# Altium footprint library Diod.PcbLib: 392 footprints (part 18 of 25)
Each footprint in its own frame and in the unit in brackets; x right, y up, seen from the top. Pads: shape width x height; smd on the part's side, far side on the other; paste and mask are expansions set on the pad; w line width, h text height; cw(c..) or ccw(c..) is an arc to the next point about the centre after c.
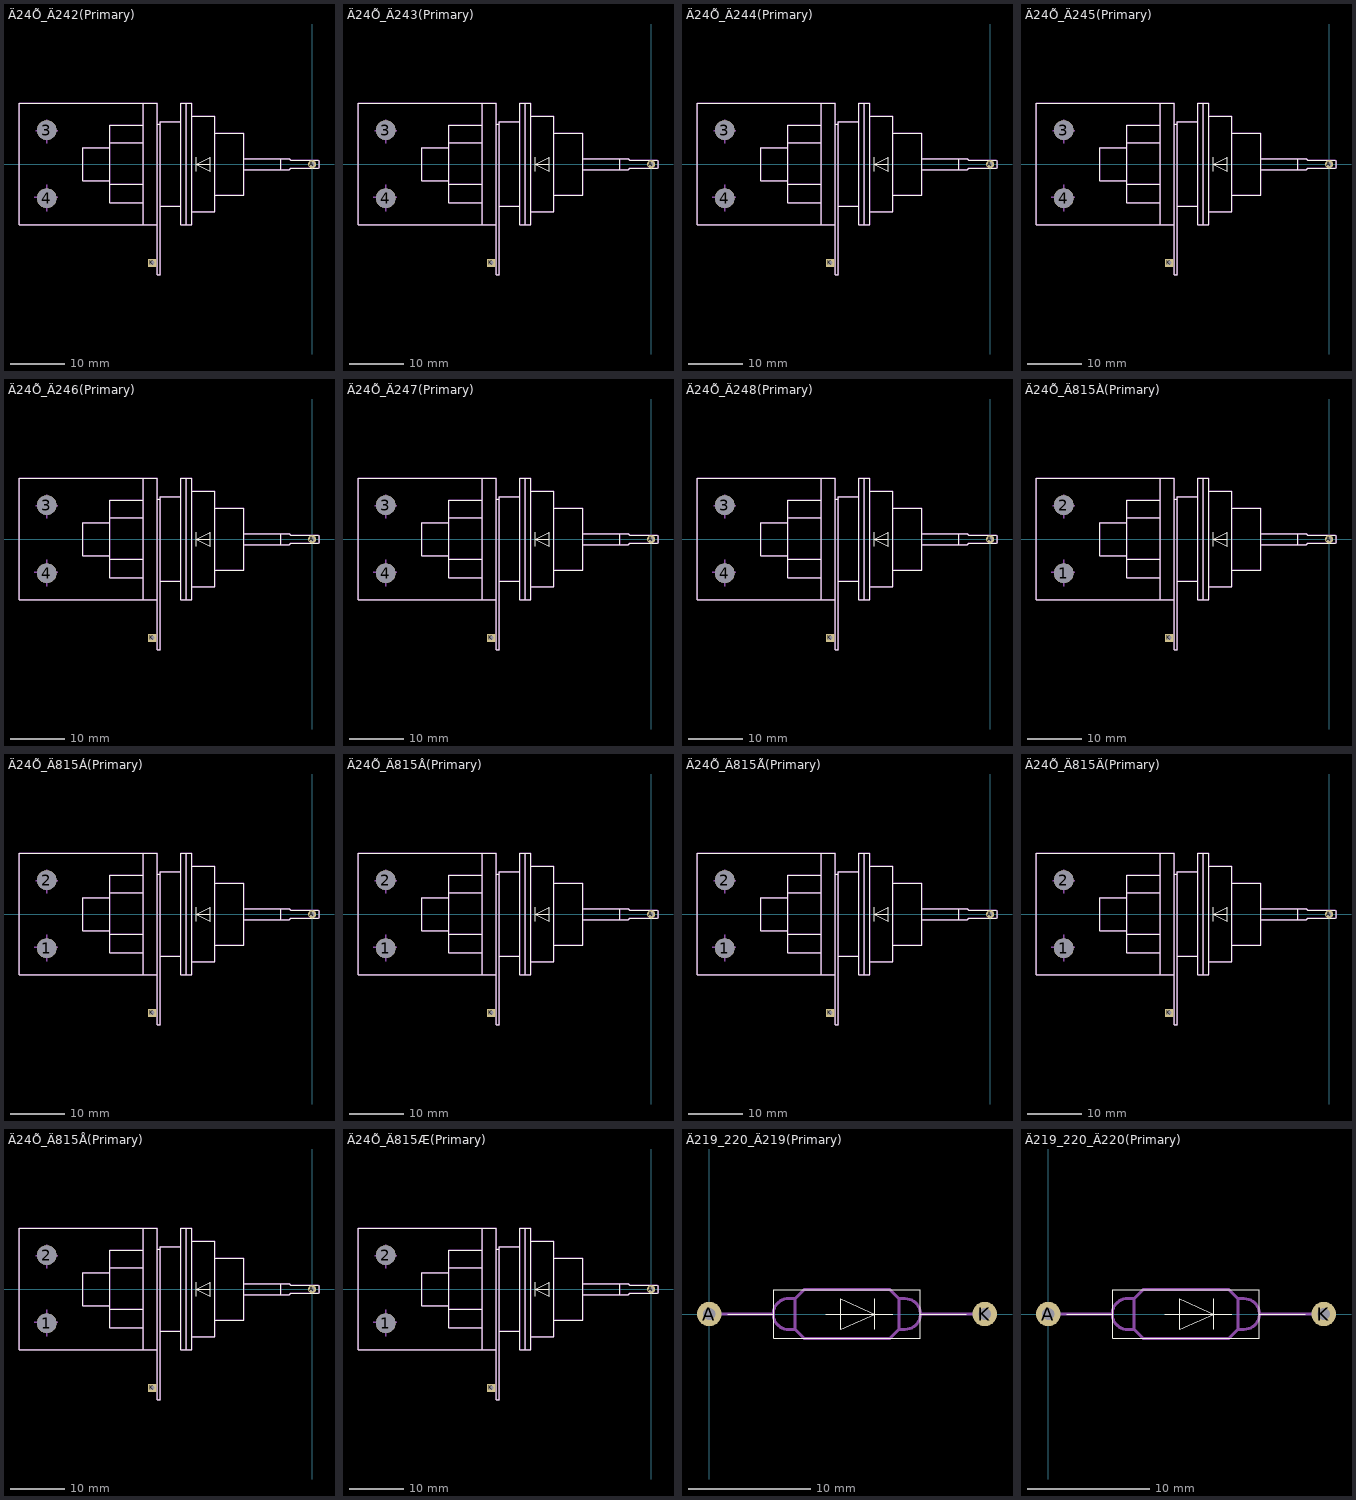
[diagram p17: the footprints below, top view; thin cyan lines are the x and y axes]

## Ä24Õ_Ä242(Primary) [mm]
pads (4):
  round 3.6 hole 3.6 unplated: 3(-48.75,6.25) 4(-48.75,-6.25)
  round 1.5 hole 0.8: A(0,0)
  rect 1.5x1.5 hole 0.8: K(-29.375,-18.125)
Top Overlay:
  lines w0.1: -37.211,-3.663 -31.115,-3.663 ; -37.211,2.941 -37.211,-3.028 ; -37.084,3.957 -31.115,3.957 ; -28.448,-11.156 -30.988,-11.156 ; -27.94,-7.727 -24.13,-7.727 -24.13,7.767 -27.94,7.767 -27.94,7.259 ; -22.098,-8.743 -17.907,-8.743 -17.907,8.783 -22.098,8.783 ; -21.25,-1.25 -21.25,1.25 ; -18.75,0 -21.25,0 ; -17.907,-5.695 -12.573,-5.695 -12.573,5.735 -17.907,5.735 ; -12.573,-1.016 -5.715,-1.016 ; -12.573,1.016 -5.715,1.016 ; -37.211,-3.028 -42.164,-3.028 -42.164,3.068 -37.211,3.068 -37.211,7.132 -30.988,7.132 ; -37.211,-3.028 -37.211,-7.092 -30.988,-7.092 ; -30.988,-11.156 -53.848,-11.156 -53.848,11.196 -51.308,11.196 -30.988,11.196 ; -30.988,-11.156 -30.988,-7.092 ; -30.988,-7.092 -30.988,7.132 ; -30.988,7.132 -30.988,11.196 ; -30.988,11.196 -28.448,11.196 -28.448,7.386 ; -28.448,7.386 -28.448,-20.3 -27.94,-20.3 -27.94,7.386 -28.448,7.386 ; -23.114,-11.156 -23.114,11.196 ; -23.114,-11.156 -23.114,11.196 ; -23.114,-11.156 -22.098,-11.156 -22.098,11.196 -23.114,11.196 ; -23.114,-11.156 -24.13,-11.156 -24.13,11.196 -23.114,11.196 ; -21.25,0 -18.75,1.25 -18.75,-1.25 -21.25,0 ; -5.715,-1.016 -5.715,1.016 ; -5.715,-1.016 -4.191,-1.016 -3.937,-0.762 1.143,-0.762 1.27,-0.635 1.27,0.635 1.143,0.762 -3.937,0.762 -4.191,1.016 -5.715,1.016
Mechanical 1:
  circle w0.25: c0.003,-0.03 r0.463
  circle w0.25: c0.003,-0.03 r0.463
  lines w0.25: -51.054,-6.076 -46.736,-6.076 ; -50.8,6.116 -46.736,6.116 ; -48.768,-8.616 -48.768,-3.79 ; -48.768,3.83 -48.768,8.148 ; -37.211,-3.663 -31.115,-3.663 ; -37.211,2.941 -37.211,-3.028 ; -37.084,3.957 -31.115,3.957 ; -28.448,-11.156 -30.988,-11.156 ; -27.94,-7.727 -24.13,-7.727 -24.13,7.767 -27.94,7.767 -27.94,7.259 ; -22.098,-8.743 -17.907,-8.743 -17.907,8.783 -22.098,8.783 ; -17.907,-5.695 -12.573,-5.695 -12.573,5.735 -17.907,5.735 ; -12.573,-1.016 -5.715,-1.016 ; -12.573,1.016 -5.715,1.016 ; -37.211,-3.028 -42.164,-3.028 -42.164,3.068 -37.211,3.068 -37.211,7.132 -30.988,7.132 ; -37.211,-3.028 -37.211,-7.092 -30.988,-7.092 ; -30.988,-11.156 -53.848,-11.156 -53.848,11.196 -51.308,11.196 -30.988,11.196 ; -30.988,-11.156 -30.988,-7.092 ; -30.988,-7.092 -30.988,7.132 ; -30.988,7.132 -30.988,11.196 ; -30.988,11.196 -28.448,11.196 -28.448,7.386 ; -28.448,7.386 -28.448,-20.3 -27.94,-20.3 -27.94,7.386 -28.448,7.386 ; -23.114,-11.156 -23.114,11.196 ; -23.114,-11.156 -23.114,11.196 ; -23.114,-11.156 -22.098,-11.156 -22.098,11.196 -23.114,11.196 ; -23.114,-11.156 -24.13,-11.156 -24.13,11.196 -23.114,11.196 ; -5.715,-1.016 -5.715,1.016 ; -5.715,-1.016 -4.191,-1.016 -3.937,-0.762 1.143,-0.762 1.27,-0.635 1.27,0.635 1.143,0.762 -3.937,0.762 -4.191,1.016 -5.715,1.016

## Ä24Õ_Ä243(Primary) [mm]
pads (4):
  round 3.6 hole 3.6 unplated: 3(-48.75,6.25) 4(-48.75,-6.25)
  round 1.5 hole 0.8: A(0,0)
  rect 1.5x1.5 hole 0.8: K(-29.375,-18.125)
Top Overlay:
  lines w0.1: -37.211,-3.663 -31.115,-3.663 ; -37.211,2.941 -37.211,-3.028 ; -37.084,3.957 -31.115,3.957 ; -28.448,-11.156 -30.988,-11.156 ; -27.94,-7.727 -24.13,-7.727 -24.13,7.767 -27.94,7.767 -27.94,7.259 ; -22.098,-8.743 -17.907,-8.743 -17.907,8.783 -22.098,8.783 ; -21.25,-1.25 -21.25,1.25 ; -18.75,0 -21.25,0 ; -17.907,-5.695 -12.573,-5.695 -12.573,5.735 -17.907,5.735 ; -12.573,-1.016 -5.715,-1.016 ; -12.573,1.016 -5.715,1.016 ; -37.211,-3.028 -42.164,-3.028 -42.164,3.068 -37.211,3.068 -37.211,7.132 -30.988,7.132 ; -37.211,-3.028 -37.211,-7.092 -30.988,-7.092 ; -30.988,-11.156 -53.848,-11.156 -53.848,11.196 -51.308,11.196 -30.988,11.196 ; -30.988,-11.156 -30.988,-7.092 ; -30.988,-7.092 -30.988,7.132 ; -30.988,7.132 -30.988,11.196 ; -30.988,11.196 -28.448,11.196 -28.448,7.386 ; -28.448,7.386 -28.448,-20.3 -27.94,-20.3 -27.94,7.386 -28.448,7.386 ; -23.114,-11.156 -23.114,11.196 ; -23.114,-11.156 -23.114,11.196 ; -23.114,-11.156 -22.098,-11.156 -22.098,11.196 -23.114,11.196 ; -23.114,-11.156 -24.13,-11.156 -24.13,11.196 -23.114,11.196 ; -21.25,0 -18.75,1.25 -18.75,-1.25 -21.25,0 ; -5.715,-1.016 -5.715,1.016 ; -5.715,-1.016 -4.191,-1.016 -3.937,-0.762 1.143,-0.762 1.27,-0.635 1.27,0.635 1.143,0.762 -3.937,0.762 -4.191,1.016 -5.715,1.016
Mechanical 1:
  circle w0.25: c0.003,-0.03 r0.463
  circle w0.25: c0.003,-0.03 r0.463
  lines w0.25: -51.054,-6.076 -46.736,-6.076 ; -50.8,6.116 -46.736,6.116 ; -48.768,-8.616 -48.768,-3.79 ; -48.768,3.83 -48.768,8.148 ; -37.211,-3.663 -31.115,-3.663 ; -37.211,2.941 -37.211,-3.028 ; -37.084,3.957 -31.115,3.957 ; -28.448,-11.156 -30.988,-11.156 ; -27.94,-7.727 -24.13,-7.727 -24.13,7.767 -27.94,7.767 -27.94,7.259 ; -22.098,-8.743 -17.907,-8.743 -17.907,8.783 -22.098,8.783 ; -17.907,-5.695 -12.573,-5.695 -12.573,5.735 -17.907,5.735 ; -12.573,-1.016 -5.715,-1.016 ; -12.573,1.016 -5.715,1.016 ; -37.211,-3.028 -42.164,-3.028 -42.164,3.068 -37.211,3.068 -37.211,7.132 -30.988,7.132 ; -37.211,-3.028 -37.211,-7.092 -30.988,-7.092 ; -30.988,-11.156 -53.848,-11.156 -53.848,11.196 -51.308,11.196 -30.988,11.196 ; -30.988,-11.156 -30.988,-7.092 ; -30.988,-7.092 -30.988,7.132 ; -30.988,7.132 -30.988,11.196 ; -30.988,11.196 -28.448,11.196 -28.448,7.386 ; -28.448,7.386 -28.448,-20.3 -27.94,-20.3 -27.94,7.386 -28.448,7.386 ; -23.114,-11.156 -23.114,11.196 ; -23.114,-11.156 -23.114,11.196 ; -23.114,-11.156 -22.098,-11.156 -22.098,11.196 -23.114,11.196 ; -23.114,-11.156 -24.13,-11.156 -24.13,11.196 -23.114,11.196 ; -5.715,-1.016 -5.715,1.016 ; -5.715,-1.016 -4.191,-1.016 -3.937,-0.762 1.143,-0.762 1.27,-0.635 1.27,0.635 1.143,0.762 -3.937,0.762 -4.191,1.016 -5.715,1.016

## Ä24Õ_Ä244(Primary) [mm]
pads (4):
  round 3.6 hole 3.6 unplated: 3(-48.75,6.25) 4(-48.75,-6.25)
  round 1.5 hole 0.8: A(0,0)
  rect 1.5x1.5 hole 0.8: K(-29.375,-18.125)
Top Overlay:
  lines w0.1: -37.211,-3.663 -31.115,-3.663 ; -37.211,2.941 -37.211,-3.028 ; -37.084,3.957 -31.115,3.957 ; -28.448,-11.156 -30.988,-11.156 ; -27.94,-7.727 -24.13,-7.727 -24.13,7.767 -27.94,7.767 -27.94,7.259 ; -22.098,-8.743 -17.907,-8.743 -17.907,8.783 -22.098,8.783 ; -21.25,-1.25 -21.25,1.25 ; -18.75,0 -21.25,0 ; -17.907,-5.695 -12.573,-5.695 -12.573,5.735 -17.907,5.735 ; -12.573,-1.016 -5.715,-1.016 ; -12.573,1.016 -5.715,1.016 ; -37.211,-3.028 -42.164,-3.028 -42.164,3.068 -37.211,3.068 -37.211,7.132 -30.988,7.132 ; -37.211,-3.028 -37.211,-7.092 -30.988,-7.092 ; -30.988,-11.156 -53.848,-11.156 -53.848,11.196 -51.308,11.196 -30.988,11.196 ; -30.988,-11.156 -30.988,-7.092 ; -30.988,-7.092 -30.988,7.132 ; -30.988,7.132 -30.988,11.196 ; -30.988,11.196 -28.448,11.196 -28.448,7.386 ; -28.448,7.386 -28.448,-20.3 -27.94,-20.3 -27.94,7.386 -28.448,7.386 ; -23.114,-11.156 -23.114,11.196 ; -23.114,-11.156 -23.114,11.196 ; -23.114,-11.156 -22.098,-11.156 -22.098,11.196 -23.114,11.196 ; -23.114,-11.156 -24.13,-11.156 -24.13,11.196 -23.114,11.196 ; -21.25,0 -18.75,1.25 -18.75,-1.25 -21.25,0 ; -5.715,-1.016 -5.715,1.016 ; -5.715,-1.016 -4.191,-1.016 -3.937,-0.762 1.143,-0.762 1.27,-0.635 1.27,0.635 1.143,0.762 -3.937,0.762 -4.191,1.016 -5.715,1.016
Mechanical 1:
  circle w0.25: c0.003,-0.03 r0.463
  circle w0.25: c0.003,-0.03 r0.463
  lines w0.25: -51.054,-6.076 -46.736,-6.076 ; -50.8,6.116 -46.736,6.116 ; -48.768,-8.616 -48.768,-3.79 ; -48.768,3.83 -48.768,8.148 ; -37.211,-3.663 -31.115,-3.663 ; -37.211,2.941 -37.211,-3.028 ; -37.084,3.957 -31.115,3.957 ; -28.448,-11.156 -30.988,-11.156 ; -27.94,-7.727 -24.13,-7.727 -24.13,7.767 -27.94,7.767 -27.94,7.259 ; -22.098,-8.743 -17.907,-8.743 -17.907,8.783 -22.098,8.783 ; -17.907,-5.695 -12.573,-5.695 -12.573,5.735 -17.907,5.735 ; -12.573,-1.016 -5.715,-1.016 ; -12.573,1.016 -5.715,1.016 ; -37.211,-3.028 -42.164,-3.028 -42.164,3.068 -37.211,3.068 -37.211,7.132 -30.988,7.132 ; -37.211,-3.028 -37.211,-7.092 -30.988,-7.092 ; -30.988,-11.156 -53.848,-11.156 -53.848,11.196 -51.308,11.196 -30.988,11.196 ; -30.988,-11.156 -30.988,-7.092 ; -30.988,-7.092 -30.988,7.132 ; -30.988,7.132 -30.988,11.196 ; -30.988,11.196 -28.448,11.196 -28.448,7.386 ; -28.448,7.386 -28.448,-20.3 -27.94,-20.3 -27.94,7.386 -28.448,7.386 ; -23.114,-11.156 -23.114,11.196 ; -23.114,-11.156 -23.114,11.196 ; -23.114,-11.156 -22.098,-11.156 -22.098,11.196 -23.114,11.196 ; -23.114,-11.156 -24.13,-11.156 -24.13,11.196 -23.114,11.196 ; -5.715,-1.016 -5.715,1.016 ; -5.715,-1.016 -4.191,-1.016 -3.937,-0.762 1.143,-0.762 1.27,-0.635 1.27,0.635 1.143,0.762 -3.937,0.762 -4.191,1.016 -5.715,1.016

## Ä24Õ_Ä245(Primary) [mm]
pads (4):
  round 3.6 hole 3.6 unplated: 3(-48.75,6.25) 4(-48.75,-6.25)
  round 1.5 hole 0.8: A(0,0)
  rect 1.5x1.5 hole 0.8: K(-29.375,-18.125)
Top Overlay:
  lines w0.1: -37.211,-3.663 -31.115,-3.663 ; -37.211,2.941 -37.211,-3.028 ; -37.084,3.957 -31.115,3.957 ; -28.448,-11.156 -30.988,-11.156 ; -27.94,-7.727 -24.13,-7.727 -24.13,7.767 -27.94,7.767 -27.94,7.259 ; -22.098,-8.743 -17.907,-8.743 -17.907,8.783 -22.098,8.783 ; -21.25,-1.25 -21.25,1.25 ; -18.75,0 -21.25,0 ; -17.907,-5.695 -12.573,-5.695 -12.573,5.735 -17.907,5.735 ; -12.573,-1.016 -5.715,-1.016 ; -12.573,1.016 -5.715,1.016 ; -37.211,-3.028 -42.164,-3.028 -42.164,3.068 -37.211,3.068 -37.211,7.132 -30.988,7.132 ; -37.211,-3.028 -37.211,-7.092 -30.988,-7.092 ; -30.988,-11.156 -53.848,-11.156 -53.848,11.196 -51.308,11.196 -30.988,11.196 ; -30.988,-11.156 -30.988,-7.092 ; -30.988,-7.092 -30.988,7.132 ; -30.988,7.132 -30.988,11.196 ; -30.988,11.196 -28.448,11.196 -28.448,7.386 ; -28.448,7.386 -28.448,-20.3 -27.94,-20.3 -27.94,7.386 -28.448,7.386 ; -23.114,-11.156 -23.114,11.196 ; -23.114,-11.156 -23.114,11.196 ; -23.114,-11.156 -22.098,-11.156 -22.098,11.196 -23.114,11.196 ; -23.114,-11.156 -24.13,-11.156 -24.13,11.196 -23.114,11.196 ; -21.25,0 -18.75,1.25 -18.75,-1.25 -21.25,0 ; -5.715,-1.016 -5.715,1.016 ; -5.715,-1.016 -4.191,-1.016 -3.937,-0.762 1.143,-0.762 1.27,-0.635 1.27,0.635 1.143,0.762 -3.937,0.762 -4.191,1.016 -5.715,1.016
Mechanical 1:
  circle w0.25: c0.003,-0.03 r0.463
  circle w0.25: c0.003,-0.03 r0.463
  lines w0.25: -51.054,-6.076 -46.736,-6.076 ; -50.8,6.116 -46.736,6.116 ; -48.768,-8.616 -48.768,-3.79 ; -48.768,3.83 -48.768,8.148 ; -37.211,-3.663 -31.115,-3.663 ; -37.211,2.941 -37.211,-3.028 ; -37.084,3.957 -31.115,3.957 ; -28.448,-11.156 -30.988,-11.156 ; -27.94,-7.727 -24.13,-7.727 -24.13,7.767 -27.94,7.767 -27.94,7.259 ; -22.098,-8.743 -17.907,-8.743 -17.907,8.783 -22.098,8.783 ; -17.907,-5.695 -12.573,-5.695 -12.573,5.735 -17.907,5.735 ; -12.573,-1.016 -5.715,-1.016 ; -12.573,1.016 -5.715,1.016 ; -37.211,-3.028 -42.164,-3.028 -42.164,3.068 -37.211,3.068 -37.211,7.132 -30.988,7.132 ; -37.211,-3.028 -37.211,-7.092 -30.988,-7.092 ; -30.988,-11.156 -53.848,-11.156 -53.848,11.196 -51.308,11.196 -30.988,11.196 ; -30.988,-11.156 -30.988,-7.092 ; -30.988,-7.092 -30.988,7.132 ; -30.988,7.132 -30.988,11.196 ; -30.988,11.196 -28.448,11.196 -28.448,7.386 ; -28.448,7.386 -28.448,-20.3 -27.94,-20.3 -27.94,7.386 -28.448,7.386 ; -23.114,-11.156 -23.114,11.196 ; -23.114,-11.156 -23.114,11.196 ; -23.114,-11.156 -22.098,-11.156 -22.098,11.196 -23.114,11.196 ; -23.114,-11.156 -24.13,-11.156 -24.13,11.196 -23.114,11.196 ; -5.715,-1.016 -5.715,1.016 ; -5.715,-1.016 -4.191,-1.016 -3.937,-0.762 1.143,-0.762 1.27,-0.635 1.27,0.635 1.143,0.762 -3.937,0.762 -4.191,1.016 -5.715,1.016

## Ä24Õ_Ä246(Primary) [mm]
pads (4):
  round 3.6 hole 3.6 unplated: 3(-48.75,6.25) 4(-48.75,-6.25)
  round 1.5 hole 0.8: A(0,0)
  rect 1.5x1.5 hole 0.8: K(-29.375,-18.125)
Top Overlay:
  lines w0.1: -37.211,-3.663 -31.115,-3.663 ; -37.211,2.941 -37.211,-3.028 ; -37.084,3.957 -31.115,3.957 ; -28.448,-11.156 -30.988,-11.156 ; -27.94,-7.727 -24.13,-7.727 -24.13,7.767 -27.94,7.767 -27.94,7.259 ; -22.098,-8.743 -17.907,-8.743 -17.907,8.783 -22.098,8.783 ; -21.25,-1.25 -21.25,1.25 ; -18.75,0 -21.25,0 ; -17.907,-5.695 -12.573,-5.695 -12.573,5.735 -17.907,5.735 ; -12.573,-1.016 -5.715,-1.016 ; -12.573,1.016 -5.715,1.016 ; -37.211,-3.028 -42.164,-3.028 -42.164,3.068 -37.211,3.068 -37.211,7.132 -30.988,7.132 ; -37.211,-3.028 -37.211,-7.092 -30.988,-7.092 ; -30.988,-11.156 -53.848,-11.156 -53.848,11.196 -51.308,11.196 -30.988,11.196 ; -30.988,-11.156 -30.988,-7.092 ; -30.988,-7.092 -30.988,7.132 ; -30.988,7.132 -30.988,11.196 ; -30.988,11.196 -28.448,11.196 -28.448,7.386 ; -28.448,7.386 -28.448,-20.3 -27.94,-20.3 -27.94,7.386 -28.448,7.386 ; -23.114,-11.156 -23.114,11.196 ; -23.114,-11.156 -23.114,11.196 ; -23.114,-11.156 -22.098,-11.156 -22.098,11.196 -23.114,11.196 ; -23.114,-11.156 -24.13,-11.156 -24.13,11.196 -23.114,11.196 ; -21.25,0 -18.75,1.25 -18.75,-1.25 -21.25,0 ; -5.715,-1.016 -5.715,1.016 ; -5.715,-1.016 -4.191,-1.016 -3.937,-0.762 1.143,-0.762 1.27,-0.635 1.27,0.635 1.143,0.762 -3.937,0.762 -4.191,1.016 -5.715,1.016
Mechanical 1:
  circle w0.25: c0.003,-0.03 r0.463
  circle w0.25: c0.003,-0.03 r0.463
  lines w0.25: -51.054,-6.076 -46.736,-6.076 ; -50.8,6.116 -46.736,6.116 ; -48.768,-8.616 -48.768,-3.79 ; -48.768,3.83 -48.768,8.148 ; -37.211,-3.663 -31.115,-3.663 ; -37.211,2.941 -37.211,-3.028 ; -37.084,3.957 -31.115,3.957 ; -28.448,-11.156 -30.988,-11.156 ; -27.94,-7.727 -24.13,-7.727 -24.13,7.767 -27.94,7.767 -27.94,7.259 ; -22.098,-8.743 -17.907,-8.743 -17.907,8.783 -22.098,8.783 ; -17.907,-5.695 -12.573,-5.695 -12.573,5.735 -17.907,5.735 ; -12.573,-1.016 -5.715,-1.016 ; -12.573,1.016 -5.715,1.016 ; -37.211,-3.028 -42.164,-3.028 -42.164,3.068 -37.211,3.068 -37.211,7.132 -30.988,7.132 ; -37.211,-3.028 -37.211,-7.092 -30.988,-7.092 ; -30.988,-11.156 -53.848,-11.156 -53.848,11.196 -51.308,11.196 -30.988,11.196 ; -30.988,-11.156 -30.988,-7.092 ; -30.988,-7.092 -30.988,7.132 ; -30.988,7.132 -30.988,11.196 ; -30.988,11.196 -28.448,11.196 -28.448,7.386 ; -28.448,7.386 -28.448,-20.3 -27.94,-20.3 -27.94,7.386 -28.448,7.386 ; -23.114,-11.156 -23.114,11.196 ; -23.114,-11.156 -23.114,11.196 ; -23.114,-11.156 -22.098,-11.156 -22.098,11.196 -23.114,11.196 ; -23.114,-11.156 -24.13,-11.156 -24.13,11.196 -23.114,11.196 ; -5.715,-1.016 -5.715,1.016 ; -5.715,-1.016 -4.191,-1.016 -3.937,-0.762 1.143,-0.762 1.27,-0.635 1.27,0.635 1.143,0.762 -3.937,0.762 -4.191,1.016 -5.715,1.016

## Ä24Õ_Ä247(Primary) [mm]
pads (4):
  round 3.6 hole 3.6 unplated: 3(-48.75,6.25) 4(-48.75,-6.25)
  round 1.5 hole 0.8: A(0,0)
  rect 1.5x1.5 hole 0.8: K(-29.375,-18.125)
Top Overlay:
  lines w0.1: -37.211,-3.663 -31.115,-3.663 ; -37.211,2.941 -37.211,-3.028 ; -37.084,3.957 -31.115,3.957 ; -28.448,-11.156 -30.988,-11.156 ; -27.94,-7.727 -24.13,-7.727 -24.13,7.767 -27.94,7.767 -27.94,7.259 ; -22.098,-8.743 -17.907,-8.743 -17.907,8.783 -22.098,8.783 ; -21.25,-1.25 -21.25,1.25 ; -18.75,0 -21.25,0 ; -17.907,-5.695 -12.573,-5.695 -12.573,5.735 -17.907,5.735 ; -12.573,-1.016 -5.715,-1.016 ; -12.573,1.016 -5.715,1.016 ; -37.211,-3.028 -42.164,-3.028 -42.164,3.068 -37.211,3.068 -37.211,7.132 -30.988,7.132 ; -37.211,-3.028 -37.211,-7.092 -30.988,-7.092 ; -30.988,-11.156 -53.848,-11.156 -53.848,11.196 -51.308,11.196 -30.988,11.196 ; -30.988,-11.156 -30.988,-7.092 ; -30.988,-7.092 -30.988,7.132 ; -30.988,7.132 -30.988,11.196 ; -30.988,11.196 -28.448,11.196 -28.448,7.386 ; -28.448,7.386 -28.448,-20.3 -27.94,-20.3 -27.94,7.386 -28.448,7.386 ; -23.114,-11.156 -23.114,11.196 ; -23.114,-11.156 -23.114,11.196 ; -23.114,-11.156 -22.098,-11.156 -22.098,11.196 -23.114,11.196 ; -23.114,-11.156 -24.13,-11.156 -24.13,11.196 -23.114,11.196 ; -21.25,0 -18.75,1.25 -18.75,-1.25 -21.25,0 ; -5.715,-1.016 -5.715,1.016 ; -5.715,-1.016 -4.191,-1.016 -3.937,-0.762 1.143,-0.762 1.27,-0.635 1.27,0.635 1.143,0.762 -3.937,0.762 -4.191,1.016 -5.715,1.016
Mechanical 1:
  circle w0.25: c0.003,-0.03 r0.463
  circle w0.25: c0.003,-0.03 r0.463
  lines w0.25: -51.054,-6.076 -46.736,-6.076 ; -50.8,6.116 -46.736,6.116 ; -48.768,-8.616 -48.768,-3.79 ; -48.768,3.83 -48.768,8.148 ; -37.211,-3.663 -31.115,-3.663 ; -37.211,2.941 -37.211,-3.028 ; -37.084,3.957 -31.115,3.957 ; -28.448,-11.156 -30.988,-11.156 ; -27.94,-7.727 -24.13,-7.727 -24.13,7.767 -27.94,7.767 -27.94,7.259 ; -22.098,-8.743 -17.907,-8.743 -17.907,8.783 -22.098,8.783 ; -17.907,-5.695 -12.573,-5.695 -12.573,5.735 -17.907,5.735 ; -12.573,-1.016 -5.715,-1.016 ; -12.573,1.016 -5.715,1.016 ; -37.211,-3.028 -42.164,-3.028 -42.164,3.068 -37.211,3.068 -37.211,7.132 -30.988,7.132 ; -37.211,-3.028 -37.211,-7.092 -30.988,-7.092 ; -30.988,-11.156 -53.848,-11.156 -53.848,11.196 -51.308,11.196 -30.988,11.196 ; -30.988,-11.156 -30.988,-7.092 ; -30.988,-7.092 -30.988,7.132 ; -30.988,7.132 -30.988,11.196 ; -30.988,11.196 -28.448,11.196 -28.448,7.386 ; -28.448,7.386 -28.448,-20.3 -27.94,-20.3 -27.94,7.386 -28.448,7.386 ; -23.114,-11.156 -23.114,11.196 ; -23.114,-11.156 -23.114,11.196 ; -23.114,-11.156 -22.098,-11.156 -22.098,11.196 -23.114,11.196 ; -23.114,-11.156 -24.13,-11.156 -24.13,11.196 -23.114,11.196 ; -5.715,-1.016 -5.715,1.016 ; -5.715,-1.016 -4.191,-1.016 -3.937,-0.762 1.143,-0.762 1.27,-0.635 1.27,0.635 1.143,0.762 -3.937,0.762 -4.191,1.016 -5.715,1.016

## Ä24Õ_Ä248(Primary) [mm]
pads (4):
  round 3.6 hole 3.6 unplated: 3(-48.75,6.25) 4(-48.75,-6.25)
  round 1.5 hole 0.8: A(0,0)
  rect 1.5x1.5 hole 0.8: K(-29.375,-18.125)
Top Overlay:
  lines w0.1: -37.211,-3.663 -31.115,-3.663 ; -37.211,2.941 -37.211,-3.028 ; -37.084,3.957 -31.115,3.957 ; -28.448,-11.156 -30.988,-11.156 ; -27.94,-7.727 -24.13,-7.727 -24.13,7.767 -27.94,7.767 -27.94,7.259 ; -22.098,-8.743 -17.907,-8.743 -17.907,8.783 -22.098,8.783 ; -21.25,-1.25 -21.25,1.25 ; -18.75,0 -21.25,0 ; -17.907,-5.695 -12.573,-5.695 -12.573,5.735 -17.907,5.735 ; -12.573,-1.016 -5.715,-1.016 ; -12.573,1.016 -5.715,1.016 ; -37.211,-3.028 -42.164,-3.028 -42.164,3.068 -37.211,3.068 -37.211,7.132 -30.988,7.132 ; -37.211,-3.028 -37.211,-7.092 -30.988,-7.092 ; -30.988,-11.156 -53.848,-11.156 -53.848,11.196 -51.308,11.196 -30.988,11.196 ; -30.988,-11.156 -30.988,-7.092 ; -30.988,-7.092 -30.988,7.132 ; -30.988,7.132 -30.988,11.196 ; -30.988,11.196 -28.448,11.196 -28.448,7.386 ; -28.448,7.386 -28.448,-20.3 -27.94,-20.3 -27.94,7.386 -28.448,7.386 ; -23.114,-11.156 -23.114,11.196 ; -23.114,-11.156 -23.114,11.196 ; -23.114,-11.156 -22.098,-11.156 -22.098,11.196 -23.114,11.196 ; -23.114,-11.156 -24.13,-11.156 -24.13,11.196 -23.114,11.196 ; -21.25,0 -18.75,1.25 -18.75,-1.25 -21.25,0 ; -5.715,-1.016 -5.715,1.016 ; -5.715,-1.016 -4.191,-1.016 -3.937,-0.762 1.143,-0.762 1.27,-0.635 1.27,0.635 1.143,0.762 -3.937,0.762 -4.191,1.016 -5.715,1.016
Mechanical 1:
  circle w0.25: c0.003,-0.03 r0.463
  circle w0.25: c0.003,-0.03 r0.463
  lines w0.25: -51.054,-6.076 -46.736,-6.076 ; -50.8,6.116 -46.736,6.116 ; -48.768,-8.616 -48.768,-3.79 ; -48.768,3.83 -48.768,8.148 ; -37.211,-3.663 -31.115,-3.663 ; -37.211,2.941 -37.211,-3.028 ; -37.084,3.957 -31.115,3.957 ; -28.448,-11.156 -30.988,-11.156 ; -27.94,-7.727 -24.13,-7.727 -24.13,7.767 -27.94,7.767 -27.94,7.259 ; -22.098,-8.743 -17.907,-8.743 -17.907,8.783 -22.098,8.783 ; -17.907,-5.695 -12.573,-5.695 -12.573,5.735 -17.907,5.735 ; -12.573,-1.016 -5.715,-1.016 ; -12.573,1.016 -5.715,1.016 ; -37.211,-3.028 -42.164,-3.028 -42.164,3.068 -37.211,3.068 -37.211,7.132 -30.988,7.132 ; -37.211,-3.028 -37.211,-7.092 -30.988,-7.092 ; -30.988,-11.156 -53.848,-11.156 -53.848,11.196 -51.308,11.196 -30.988,11.196 ; -30.988,-11.156 -30.988,-7.092 ; -30.988,-7.092 -30.988,7.132 ; -30.988,7.132 -30.988,11.196 ; -30.988,11.196 -28.448,11.196 -28.448,7.386 ; -28.448,7.386 -28.448,-20.3 -27.94,-20.3 -27.94,7.386 -28.448,7.386 ; -23.114,-11.156 -23.114,11.196 ; -23.114,-11.156 -23.114,11.196 ; -23.114,-11.156 -22.098,-11.156 -22.098,11.196 -23.114,11.196 ; -23.114,-11.156 -24.13,-11.156 -24.13,11.196 -23.114,11.196 ; -5.715,-1.016 -5.715,1.016 ; -5.715,-1.016 -4.191,-1.016 -3.937,-0.762 1.143,-0.762 1.27,-0.635 1.27,0.635 1.143,0.762 -3.937,0.762 -4.191,1.016 -5.715,1.016

## Ä24Õ_Ä815À(Primary) [mm]
pads (4):
  round 3.6 hole 3.6 unplated: 1(-48.75,-6.25) 2(-48.75,6.25)
  round 1.5 hole 0.8: A(0,0)
  rect 1.5x1.5 hole 0.8: K(-29.375,-18.125)
Top Overlay:
  lines w0.1: -37.211,-3.663 -31.115,-3.663 ; -37.211,2.941 -37.211,-3.028 ; -37.084,3.957 -31.115,3.957 ; -28.448,-11.156 -30.988,-11.156 ; -27.94,-7.727 -24.13,-7.727 -24.13,7.767 -27.94,7.767 -27.94,7.259 ; -22.098,-8.743 -17.907,-8.743 -17.907,8.783 -22.098,8.783 ; -21.25,-1.25 -21.25,1.25 ; -18.75,0 -21.25,0 ; -17.907,-5.695 -12.573,-5.695 -12.573,5.735 -17.907,5.735 ; -12.573,-1.016 -5.715,-1.016 ; -12.573,1.016 -5.715,1.016 ; -37.211,-3.028 -42.164,-3.028 -42.164,3.068 -37.211,3.068 -37.211,7.132 -30.988,7.132 ; -37.211,-3.028 -37.211,-7.092 -30.988,-7.092 ; -30.988,-11.156 -53.848,-11.156 -53.848,11.196 -51.308,11.196 -30.988,11.196 ; -30.988,-11.156 -30.988,-7.092 ; -30.988,-7.092 -30.988,7.132 ; -30.988,7.132 -30.988,11.196 ; -30.988,11.196 -28.448,11.196 -28.448,7.386 ; -28.448,7.386 -28.448,-20.3 -27.94,-20.3 -27.94,7.386 -28.448,7.386 ; -23.114,-11.156 -23.114,11.196 ; -23.114,-11.156 -23.114,11.196 ; -23.114,-11.156 -22.098,-11.156 -22.098,11.196 -23.114,11.196 ; -23.114,-11.156 -24.13,-11.156 -24.13,11.196 -23.114,11.196 ; -21.25,0 -18.75,1.25 -18.75,-1.25 -21.25,0 ; -5.715,-1.016 -5.715,1.016 ; -5.715,-1.016 -4.191,-1.016 -3.937,-0.762 1.143,-0.762 1.27,-0.635 1.27,0.635 1.143,0.762 -3.937,0.762 -4.191,1.016 -5.715,1.016
Mechanical 1:
  circle w0.25: c0.003,-0.03 r0.463
  circle w0.25: c0.003,-0.03 r0.463
  lines w0.25: -51.054,-6.076 -46.736,-6.076 ; -50.8,6.116 -46.736,6.116 ; -48.768,-8.616 -48.768,-3.79 ; -48.768,3.83 -48.768,8.148 ; -37.211,-3.663 -31.115,-3.663 ; -37.211,2.941 -37.211,-3.028 ; -37.084,3.957 -31.115,3.957 ; -28.448,-11.156 -30.988,-11.156 ; -27.94,-7.727 -24.13,-7.727 -24.13,7.767 -27.94,7.767 -27.94,7.259 ; -22.098,-8.743 -17.907,-8.743 -17.907,8.783 -22.098,8.783 ; -17.907,-5.695 -12.573,-5.695 -12.573,5.735 -17.907,5.735 ; -12.573,-1.016 -5.715,-1.016 ; -12.573,1.016 -5.715,1.016 ; -37.211,-3.028 -42.164,-3.028 -42.164,3.068 -37.211,3.068 -37.211,7.132 -30.988,7.132 ; -37.211,-3.028 -37.211,-7.092 -30.988,-7.092 ; -30.988,-11.156 -53.848,-11.156 -53.848,11.196 -51.308,11.196 -30.988,11.196 ; -30.988,-11.156 -30.988,-7.092 ; -30.988,-7.092 -30.988,7.132 ; -30.988,7.132 -30.988,11.196 ; -30.988,11.196 -28.448,11.196 -28.448,7.386 ; -28.448,7.386 -28.448,-20.3 -27.94,-20.3 -27.94,7.386 -28.448,7.386 ; -23.114,-11.156 -23.114,11.196 ; -23.114,-11.156 -23.114,11.196 ; -23.114,-11.156 -22.098,-11.156 -22.098,11.196 -23.114,11.196 ; -23.114,-11.156 -24.13,-11.156 -24.13,11.196 -23.114,11.196 ; -5.715,-1.016 -5.715,1.016 ; -5.715,-1.016 -4.191,-1.016 -3.937,-0.762 1.143,-0.762 1.27,-0.635 1.27,0.635 1.143,0.762 -3.937,0.762 -4.191,1.016 -5.715,1.016

## Ä24Õ_Ä815Á(Primary) [mm]
pads (4):
  round 3.6 hole 3.6 unplated: 1(-48.75,-6.25) 2(-48.75,6.25)
  round 1.5 hole 0.8: A(0,0)
  rect 1.5x1.5 hole 0.8: K(-29.375,-18.125)
Top Overlay:
  lines w0.1: -37.211,-3.663 -31.115,-3.663 ; -37.211,2.941 -37.211,-3.028 ; -37.084,3.957 -31.115,3.957 ; -28.448,-11.156 -30.988,-11.156 ; -27.94,-7.727 -24.13,-7.727 -24.13,7.767 -27.94,7.767 -27.94,7.259 ; -22.098,-8.743 -17.907,-8.743 -17.907,8.783 -22.098,8.783 ; -21.25,-1.25 -21.25,1.25 ; -18.75,0 -21.25,0 ; -17.907,-5.695 -12.573,-5.695 -12.573,5.735 -17.907,5.735 ; -12.573,-1.016 -5.715,-1.016 ; -12.573,1.016 -5.715,1.016 ; -37.211,-3.028 -42.164,-3.028 -42.164,3.068 -37.211,3.068 -37.211,7.132 -30.988,7.132 ; -37.211,-3.028 -37.211,-7.092 -30.988,-7.092 ; -30.988,-11.156 -53.848,-11.156 -53.848,11.196 -51.308,11.196 -30.988,11.196 ; -30.988,-11.156 -30.988,-7.092 ; -30.988,-7.092 -30.988,7.132 ; -30.988,7.132 -30.988,11.196 ; -30.988,11.196 -28.448,11.196 -28.448,7.386 ; -28.448,7.386 -28.448,-20.3 -27.94,-20.3 -27.94,7.386 -28.448,7.386 ; -23.114,-11.156 -23.114,11.196 ; -23.114,-11.156 -23.114,11.196 ; -23.114,-11.156 -22.098,-11.156 -22.098,11.196 -23.114,11.196 ; -23.114,-11.156 -24.13,-11.156 -24.13,11.196 -23.114,11.196 ; -21.25,0 -18.75,1.25 -18.75,-1.25 -21.25,0 ; -5.715,-1.016 -5.715,1.016 ; -5.715,-1.016 -4.191,-1.016 -3.937,-0.762 1.143,-0.762 1.27,-0.635 1.27,0.635 1.143,0.762 -3.937,0.762 -4.191,1.016 -5.715,1.016
Mechanical 1:
  circle w0.25: c0.003,-0.03 r0.463
  circle w0.25: c0.003,-0.03 r0.463
  lines w0.25: -51.054,-6.076 -46.736,-6.076 ; -50.8,6.116 -46.736,6.116 ; -48.768,-8.616 -48.768,-3.79 ; -48.768,3.83 -48.768,8.148 ; -37.211,-3.663 -31.115,-3.663 ; -37.211,2.941 -37.211,-3.028 ; -37.084,3.957 -31.115,3.957 ; -28.448,-11.156 -30.988,-11.156 ; -27.94,-7.727 -24.13,-7.727 -24.13,7.767 -27.94,7.767 -27.94,7.259 ; -22.098,-8.743 -17.907,-8.743 -17.907,8.783 -22.098,8.783 ; -17.907,-5.695 -12.573,-5.695 -12.573,5.735 -17.907,5.735 ; -12.573,-1.016 -5.715,-1.016 ; -12.573,1.016 -5.715,1.016 ; -37.211,-3.028 -42.164,-3.028 -42.164,3.068 -37.211,3.068 -37.211,7.132 -30.988,7.132 ; -37.211,-3.028 -37.211,-7.092 -30.988,-7.092 ; -30.988,-11.156 -53.848,-11.156 -53.848,11.196 -51.308,11.196 -30.988,11.196 ; -30.988,-11.156 -30.988,-7.092 ; -30.988,-7.092 -30.988,7.132 ; -30.988,7.132 -30.988,11.196 ; -30.988,11.196 -28.448,11.196 -28.448,7.386 ; -28.448,7.386 -28.448,-20.3 -27.94,-20.3 -27.94,7.386 -28.448,7.386 ; -23.114,-11.156 -23.114,11.196 ; -23.114,-11.156 -23.114,11.196 ; -23.114,-11.156 -22.098,-11.156 -22.098,11.196 -23.114,11.196 ; -23.114,-11.156 -24.13,-11.156 -24.13,11.196 -23.114,11.196 ; -5.715,-1.016 -5.715,1.016 ; -5.715,-1.016 -4.191,-1.016 -3.937,-0.762 1.143,-0.762 1.27,-0.635 1.27,0.635 1.143,0.762 -3.937,0.762 -4.191,1.016 -5.715,1.016

## Ä24Õ_Ä815Â(Primary) [mm]
pads (4):
  round 3.6 hole 3.6 unplated: 1(-48.75,-6.25) 2(-48.75,6.25)
  round 1.5 hole 0.8: A(0,0)
  rect 1.5x1.5 hole 0.8: K(-29.375,-18.125)
Top Overlay:
  lines w0.1: -37.211,-3.663 -31.115,-3.663 ; -37.211,2.941 -37.211,-3.028 ; -37.084,3.957 -31.115,3.957 ; -28.448,-11.156 -30.988,-11.156 ; -27.94,-7.727 -24.13,-7.727 -24.13,7.767 -27.94,7.767 -27.94,7.259 ; -22.098,-8.743 -17.907,-8.743 -17.907,8.783 -22.098,8.783 ; -21.25,-1.25 -21.25,1.25 ; -18.75,0 -21.25,0 ; -17.907,-5.695 -12.573,-5.695 -12.573,5.735 -17.907,5.735 ; -12.573,-1.016 -5.715,-1.016 ; -12.573,1.016 -5.715,1.016 ; -37.211,-3.028 -42.164,-3.028 -42.164,3.068 -37.211,3.068 -37.211,7.132 -30.988,7.132 ; -37.211,-3.028 -37.211,-7.092 -30.988,-7.092 ; -30.988,-11.156 -53.848,-11.156 -53.848,11.196 -51.308,11.196 -30.988,11.196 ; -30.988,-11.156 -30.988,-7.092 ; -30.988,-7.092 -30.988,7.132 ; -30.988,7.132 -30.988,11.196 ; -30.988,11.196 -28.448,11.196 -28.448,7.386 ; -28.448,7.386 -28.448,-20.3 -27.94,-20.3 -27.94,7.386 -28.448,7.386 ; -23.114,-11.156 -23.114,11.196 ; -23.114,-11.156 -23.114,11.196 ; -23.114,-11.156 -22.098,-11.156 -22.098,11.196 -23.114,11.196 ; -23.114,-11.156 -24.13,-11.156 -24.13,11.196 -23.114,11.196 ; -21.25,0 -18.75,1.25 -18.75,-1.25 -21.25,0 ; -5.715,-1.016 -5.715,1.016 ; -5.715,-1.016 -4.191,-1.016 -3.937,-0.762 1.143,-0.762 1.27,-0.635 1.27,0.635 1.143,0.762 -3.937,0.762 -4.191,1.016 -5.715,1.016
Mechanical 1:
  circle w0.25: c0.003,-0.03 r0.463
  circle w0.25: c0.003,-0.03 r0.463
  lines w0.25: -51.054,-6.076 -46.736,-6.076 ; -50.8,6.116 -46.736,6.116 ; -48.768,-8.616 -48.768,-3.79 ; -48.768,3.83 -48.768,8.148 ; -37.211,-3.663 -31.115,-3.663 ; -37.211,2.941 -37.211,-3.028 ; -37.084,3.957 -31.115,3.957 ; -28.448,-11.156 -30.988,-11.156 ; -27.94,-7.727 -24.13,-7.727 -24.13,7.767 -27.94,7.767 -27.94,7.259 ; -22.098,-8.743 -17.907,-8.743 -17.907,8.783 -22.098,8.783 ; -17.907,-5.695 -12.573,-5.695 -12.573,5.735 -17.907,5.735 ; -12.573,-1.016 -5.715,-1.016 ; -12.573,1.016 -5.715,1.016 ; -37.211,-3.028 -42.164,-3.028 -42.164,3.068 -37.211,3.068 -37.211,7.132 -30.988,7.132 ; -37.211,-3.028 -37.211,-7.092 -30.988,-7.092 ; -30.988,-11.156 -53.848,-11.156 -53.848,11.196 -51.308,11.196 -30.988,11.196 ; -30.988,-11.156 -30.988,-7.092 ; -30.988,-7.092 -30.988,7.132 ; -30.988,7.132 -30.988,11.196 ; -30.988,11.196 -28.448,11.196 -28.448,7.386 ; -28.448,7.386 -28.448,-20.3 -27.94,-20.3 -27.94,7.386 -28.448,7.386 ; -23.114,-11.156 -23.114,11.196 ; -23.114,-11.156 -23.114,11.196 ; -23.114,-11.156 -22.098,-11.156 -22.098,11.196 -23.114,11.196 ; -23.114,-11.156 -24.13,-11.156 -24.13,11.196 -23.114,11.196 ; -5.715,-1.016 -5.715,1.016 ; -5.715,-1.016 -4.191,-1.016 -3.937,-0.762 1.143,-0.762 1.27,-0.635 1.27,0.635 1.143,0.762 -3.937,0.762 -4.191,1.016 -5.715,1.016

## Ä24Õ_Ä815Ã(Primary) [mm]
pads (4):
  round 3.6 hole 3.6 unplated: 1(-48.75,-6.25) 2(-48.75,6.25)
  round 1.5 hole 0.8: A(0,0)
  rect 1.5x1.5 hole 0.8: K(-29.375,-18.125)
Top Overlay:
  lines w0.1: -37.211,-3.663 -31.115,-3.663 ; -37.211,2.941 -37.211,-3.028 ; -37.084,3.957 -31.115,3.957 ; -28.448,-11.156 -30.988,-11.156 ; -27.94,-7.727 -24.13,-7.727 -24.13,7.767 -27.94,7.767 -27.94,7.259 ; -22.098,-8.743 -17.907,-8.743 -17.907,8.783 -22.098,8.783 ; -21.25,-1.25 -21.25,1.25 ; -18.75,0 -21.25,0 ; -17.907,-5.695 -12.573,-5.695 -12.573,5.735 -17.907,5.735 ; -12.573,-1.016 -5.715,-1.016 ; -12.573,1.016 -5.715,1.016 ; -37.211,-3.028 -42.164,-3.028 -42.164,3.068 -37.211,3.068 -37.211,7.132 -30.988,7.132 ; -37.211,-3.028 -37.211,-7.092 -30.988,-7.092 ; -30.988,-11.156 -53.848,-11.156 -53.848,11.196 -51.308,11.196 -30.988,11.196 ; -30.988,-11.156 -30.988,-7.092 ; -30.988,-7.092 -30.988,7.132 ; -30.988,7.132 -30.988,11.196 ; -30.988,11.196 -28.448,11.196 -28.448,7.386 ; -28.448,7.386 -28.448,-20.3 -27.94,-20.3 -27.94,7.386 -28.448,7.386 ; -23.114,-11.156 -23.114,11.196 ; -23.114,-11.156 -23.114,11.196 ; -23.114,-11.156 -22.098,-11.156 -22.098,11.196 -23.114,11.196 ; -23.114,-11.156 -24.13,-11.156 -24.13,11.196 -23.114,11.196 ; -21.25,0 -18.75,1.25 -18.75,-1.25 -21.25,0 ; -5.715,-1.016 -5.715,1.016 ; -5.715,-1.016 -4.191,-1.016 -3.937,-0.762 1.143,-0.762 1.27,-0.635 1.27,0.635 1.143,0.762 -3.937,0.762 -4.191,1.016 -5.715,1.016
Mechanical 1:
  circle w0.25: c0.003,-0.03 r0.463
  circle w0.25: c0.003,-0.03 r0.463
  lines w0.25: -51.054,-6.076 -46.736,-6.076 ; -50.8,6.116 -46.736,6.116 ; -48.768,-8.616 -48.768,-3.79 ; -48.768,3.83 -48.768,8.148 ; -37.211,-3.663 -31.115,-3.663 ; -37.211,2.941 -37.211,-3.028 ; -37.084,3.957 -31.115,3.957 ; -28.448,-11.156 -30.988,-11.156 ; -27.94,-7.727 -24.13,-7.727 -24.13,7.767 -27.94,7.767 -27.94,7.259 ; -22.098,-8.743 -17.907,-8.743 -17.907,8.783 -22.098,8.783 ; -17.907,-5.695 -12.573,-5.695 -12.573,5.735 -17.907,5.735 ; -12.573,-1.016 -5.715,-1.016 ; -12.573,1.016 -5.715,1.016 ; -37.211,-3.028 -42.164,-3.028 -42.164,3.068 -37.211,3.068 -37.211,7.132 -30.988,7.132 ; -37.211,-3.028 -37.211,-7.092 -30.988,-7.092 ; -30.988,-11.156 -53.848,-11.156 -53.848,11.196 -51.308,11.196 -30.988,11.196 ; -30.988,-11.156 -30.988,-7.092 ; -30.988,-7.092 -30.988,7.132 ; -30.988,7.132 -30.988,11.196 ; -30.988,11.196 -28.448,11.196 -28.448,7.386 ; -28.448,7.386 -28.448,-20.3 -27.94,-20.3 -27.94,7.386 -28.448,7.386 ; -23.114,-11.156 -23.114,11.196 ; -23.114,-11.156 -23.114,11.196 ; -23.114,-11.156 -22.098,-11.156 -22.098,11.196 -23.114,11.196 ; -23.114,-11.156 -24.13,-11.156 -24.13,11.196 -23.114,11.196 ; -5.715,-1.016 -5.715,1.016 ; -5.715,-1.016 -4.191,-1.016 -3.937,-0.762 1.143,-0.762 1.27,-0.635 1.27,0.635 1.143,0.762 -3.937,0.762 -4.191,1.016 -5.715,1.016

## Ä24Õ_Ä815Ä(Primary) [mm]
pads (4):
  round 3.6 hole 3.6 unplated: 1(-48.75,-6.25) 2(-48.75,6.25)
  round 1.5 hole 0.8: A(0,0)
  rect 1.5x1.5 hole 0.8: K(-29.375,-18.125)
Top Overlay:
  lines w0.1: -37.211,-3.663 -31.115,-3.663 ; -37.211,2.941 -37.211,-3.028 ; -37.084,3.957 -31.115,3.957 ; -28.448,-11.156 -30.988,-11.156 ; -27.94,-7.727 -24.13,-7.727 -24.13,7.767 -27.94,7.767 -27.94,7.259 ; -22.098,-8.743 -17.907,-8.743 -17.907,8.783 -22.098,8.783 ; -21.25,-1.25 -21.25,1.25 ; -18.75,0 -21.25,0 ; -17.907,-5.695 -12.573,-5.695 -12.573,5.735 -17.907,5.735 ; -12.573,-1.016 -5.715,-1.016 ; -12.573,1.016 -5.715,1.016 ; -37.211,-3.028 -42.164,-3.028 -42.164,3.068 -37.211,3.068 -37.211,7.132 -30.988,7.132 ; -37.211,-3.028 -37.211,-7.092 -30.988,-7.092 ; -30.988,-11.156 -53.848,-11.156 -53.848,11.196 -51.308,11.196 -30.988,11.196 ; -30.988,-11.156 -30.988,-7.092 ; -30.988,-7.092 -30.988,7.132 ; -30.988,7.132 -30.988,11.196 ; -30.988,11.196 -28.448,11.196 -28.448,7.386 ; -28.448,7.386 -28.448,-20.3 -27.94,-20.3 -27.94,7.386 -28.448,7.386 ; -23.114,-11.156 -23.114,11.196 ; -23.114,-11.156 -23.114,11.196 ; -23.114,-11.156 -22.098,-11.156 -22.098,11.196 -23.114,11.196 ; -23.114,-11.156 -24.13,-11.156 -24.13,11.196 -23.114,11.196 ; -21.25,0 -18.75,1.25 -18.75,-1.25 -21.25,0 ; -5.715,-1.016 -5.715,1.016 ; -5.715,-1.016 -4.191,-1.016 -3.937,-0.762 1.143,-0.762 1.27,-0.635 1.27,0.635 1.143,0.762 -3.937,0.762 -4.191,1.016 -5.715,1.016
Mechanical 1:
  circle w0.25: c0.003,-0.03 r0.463
  circle w0.25: c0.003,-0.03 r0.463
  lines w0.25: -51.054,-6.076 -46.736,-6.076 ; -50.8,6.116 -46.736,6.116 ; -48.768,-8.616 -48.768,-3.79 ; -48.768,3.83 -48.768,8.148 ; -37.211,-3.663 -31.115,-3.663 ; -37.211,2.941 -37.211,-3.028 ; -37.084,3.957 -31.115,3.957 ; -28.448,-11.156 -30.988,-11.156 ; -27.94,-7.727 -24.13,-7.727 -24.13,7.767 -27.94,7.767 -27.94,7.259 ; -22.098,-8.743 -17.907,-8.743 -17.907,8.783 -22.098,8.783 ; -17.907,-5.695 -12.573,-5.695 -12.573,5.735 -17.907,5.735 ; -12.573,-1.016 -5.715,-1.016 ; -12.573,1.016 -5.715,1.016 ; -37.211,-3.028 -42.164,-3.028 -42.164,3.068 -37.211,3.068 -37.211,7.132 -30.988,7.132 ; -37.211,-3.028 -37.211,-7.092 -30.988,-7.092 ; -30.988,-11.156 -53.848,-11.156 -53.848,11.196 -51.308,11.196 -30.988,11.196 ; -30.988,-11.156 -30.988,-7.092 ; -30.988,-7.092 -30.988,7.132 ; -30.988,7.132 -30.988,11.196 ; -30.988,11.196 -28.448,11.196 -28.448,7.386 ; -28.448,7.386 -28.448,-20.3 -27.94,-20.3 -27.94,7.386 -28.448,7.386 ; -23.114,-11.156 -23.114,11.196 ; -23.114,-11.156 -23.114,11.196 ; -23.114,-11.156 -22.098,-11.156 -22.098,11.196 -23.114,11.196 ; -23.114,-11.156 -24.13,-11.156 -24.13,11.196 -23.114,11.196 ; -5.715,-1.016 -5.715,1.016 ; -5.715,-1.016 -4.191,-1.016 -3.937,-0.762 1.143,-0.762 1.27,-0.635 1.27,0.635 1.143,0.762 -3.937,0.762 -4.191,1.016 -5.715,1.016

## Ä24Õ_Ä815Å(Primary) [mm]
pads (4):
  round 3.6 hole 3.6 unplated: 1(-48.75,-6.25) 2(-48.75,6.25)
  round 1.5 hole 0.8: A(0,0)
  rect 1.5x1.5 hole 0.8: K(-29.375,-18.125)
Top Overlay:
  lines w0.1: -37.211,-3.663 -31.115,-3.663 ; -37.211,2.941 -37.211,-3.028 ; -37.084,3.957 -31.115,3.957 ; -28.448,-11.156 -30.988,-11.156 ; -27.94,-7.727 -24.13,-7.727 -24.13,7.767 -27.94,7.767 -27.94,7.259 ; -22.098,-8.743 -17.907,-8.743 -17.907,8.783 -22.098,8.783 ; -21.25,-1.25 -21.25,1.25 ; -18.75,0 -21.25,0 ; -17.907,-5.695 -12.573,-5.695 -12.573,5.735 -17.907,5.735 ; -12.573,-1.016 -5.715,-1.016 ; -12.573,1.016 -5.715,1.016 ; -37.211,-3.028 -42.164,-3.028 -42.164,3.068 -37.211,3.068 -37.211,7.132 -30.988,7.132 ; -37.211,-3.028 -37.211,-7.092 -30.988,-7.092 ; -30.988,-11.156 -53.848,-11.156 -53.848,11.196 -51.308,11.196 -30.988,11.196 ; -30.988,-11.156 -30.988,-7.092 ; -30.988,-7.092 -30.988,7.132 ; -30.988,7.132 -30.988,11.196 ; -30.988,11.196 -28.448,11.196 -28.448,7.386 ; -28.448,7.386 -28.448,-20.3 -27.94,-20.3 -27.94,7.386 -28.448,7.386 ; -23.114,-11.156 -23.114,11.196 ; -23.114,-11.156 -23.114,11.196 ; -23.114,-11.156 -22.098,-11.156 -22.098,11.196 -23.114,11.196 ; -23.114,-11.156 -24.13,-11.156 -24.13,11.196 -23.114,11.196 ; -21.25,0 -18.75,1.25 -18.75,-1.25 -21.25,0 ; -5.715,-1.016 -5.715,1.016 ; -5.715,-1.016 -4.191,-1.016 -3.937,-0.762 1.143,-0.762 1.27,-0.635 1.27,0.635 1.143,0.762 -3.937,0.762 -4.191,1.016 -5.715,1.016
Mechanical 1:
  circle w0.25: c0.003,-0.03 r0.463
  circle w0.25: c0.003,-0.03 r0.463
  lines w0.25: -51.054,-6.076 -46.736,-6.076 ; -50.8,6.116 -46.736,6.116 ; -48.768,-8.616 -48.768,-3.79 ; -48.768,3.83 -48.768,8.148 ; -37.211,-3.663 -31.115,-3.663 ; -37.211,2.941 -37.211,-3.028 ; -37.084,3.957 -31.115,3.957 ; -28.448,-11.156 -30.988,-11.156 ; -27.94,-7.727 -24.13,-7.727 -24.13,7.767 -27.94,7.767 -27.94,7.259 ; -22.098,-8.743 -17.907,-8.743 -17.907,8.783 -22.098,8.783 ; -17.907,-5.695 -12.573,-5.695 -12.573,5.735 -17.907,5.735 ; -12.573,-1.016 -5.715,-1.016 ; -12.573,1.016 -5.715,1.016 ; -37.211,-3.028 -42.164,-3.028 -42.164,3.068 -37.211,3.068 -37.211,7.132 -30.988,7.132 ; -37.211,-3.028 -37.211,-7.092 -30.988,-7.092 ; -30.988,-11.156 -53.848,-11.156 -53.848,11.196 -51.308,11.196 -30.988,11.196 ; -30.988,-11.156 -30.988,-7.092 ; -30.988,-7.092 -30.988,7.132 ; -30.988,7.132 -30.988,11.196 ; -30.988,11.196 -28.448,11.196 -28.448,7.386 ; -28.448,7.386 -28.448,-20.3 -27.94,-20.3 -27.94,7.386 -28.448,7.386 ; -23.114,-11.156 -23.114,11.196 ; -23.114,-11.156 -23.114,11.196 ; -23.114,-11.156 -22.098,-11.156 -22.098,11.196 -23.114,11.196 ; -23.114,-11.156 -24.13,-11.156 -24.13,11.196 -23.114,11.196 ; -5.715,-1.016 -5.715,1.016 ; -5.715,-1.016 -4.191,-1.016 -3.937,-0.762 1.143,-0.762 1.27,-0.635 1.27,0.635 1.143,0.762 -3.937,0.762 -4.191,1.016 -5.715,1.016

## Ä24Õ_Ä815Æ(Primary) [mm]
pads (4):
  round 3.6 hole 3.6 unplated: 1(-48.75,-6.25) 2(-48.75,6.25)
  round 1.5 hole 0.8: A(0,0)
  rect 1.5x1.5 hole 0.8: K(-29.375,-18.125)
Top Overlay:
  lines w0.1: -37.211,-3.663 -31.115,-3.663 ; -37.211,2.941 -37.211,-3.028 ; -37.084,3.957 -31.115,3.957 ; -28.448,-11.156 -30.988,-11.156 ; -27.94,-7.727 -24.13,-7.727 -24.13,7.767 -27.94,7.767 -27.94,7.259 ; -22.098,-8.743 -17.907,-8.743 -17.907,8.783 -22.098,8.783 ; -21.25,-1.25 -21.25,1.25 ; -18.75,0 -21.25,0 ; -17.907,-5.695 -12.573,-5.695 -12.573,5.735 -17.907,5.735 ; -12.573,-1.016 -5.715,-1.016 ; -12.573,1.016 -5.715,1.016 ; -37.211,-3.028 -42.164,-3.028 -42.164,3.068 -37.211,3.068 -37.211,7.132 -30.988,7.132 ; -37.211,-3.028 -37.211,-7.092 -30.988,-7.092 ; -30.988,-11.156 -53.848,-11.156 -53.848,11.196 -51.308,11.196 -30.988,11.196 ; -30.988,-11.156 -30.988,-7.092 ; -30.988,-7.092 -30.988,7.132 ; -30.988,7.132 -30.988,11.196 ; -30.988,11.196 -28.448,11.196 -28.448,7.386 ; -28.448,7.386 -28.448,-20.3 -27.94,-20.3 -27.94,7.386 -28.448,7.386 ; -23.114,-11.156 -23.114,11.196 ; -23.114,-11.156 -23.114,11.196 ; -23.114,-11.156 -22.098,-11.156 -22.098,11.196 -23.114,11.196 ; -23.114,-11.156 -24.13,-11.156 -24.13,11.196 -23.114,11.196 ; -21.25,0 -18.75,1.25 -18.75,-1.25 -21.25,0 ; -5.715,-1.016 -5.715,1.016 ; -5.715,-1.016 -4.191,-1.016 -3.937,-0.762 1.143,-0.762 1.27,-0.635 1.27,0.635 1.143,0.762 -3.937,0.762 -4.191,1.016 -5.715,1.016
Mechanical 1:
  circle w0.25: c0.003,-0.03 r0.463
  circle w0.25: c0.003,-0.03 r0.463
  lines w0.25: -51.054,-6.076 -46.736,-6.076 ; -50.8,6.116 -46.736,6.116 ; -48.768,-8.616 -48.768,-3.79 ; -48.768,3.83 -48.768,8.148 ; -37.211,-3.663 -31.115,-3.663 ; -37.211,2.941 -37.211,-3.028 ; -37.084,3.957 -31.115,3.957 ; -28.448,-11.156 -30.988,-11.156 ; -27.94,-7.727 -24.13,-7.727 -24.13,7.767 -27.94,7.767 -27.94,7.259 ; -22.098,-8.743 -17.907,-8.743 -17.907,8.783 -22.098,8.783 ; -17.907,-5.695 -12.573,-5.695 -12.573,5.735 -17.907,5.735 ; -12.573,-1.016 -5.715,-1.016 ; -12.573,1.016 -5.715,1.016 ; -37.211,-3.028 -42.164,-3.028 -42.164,3.068 -37.211,3.068 -37.211,7.132 -30.988,7.132 ; -37.211,-3.028 -37.211,-7.092 -30.988,-7.092 ; -30.988,-11.156 -53.848,-11.156 -53.848,11.196 -51.308,11.196 -30.988,11.196 ; -30.988,-11.156 -30.988,-7.092 ; -30.988,-7.092 -30.988,7.132 ; -30.988,7.132 -30.988,11.196 ; -30.988,11.196 -28.448,11.196 -28.448,7.386 ; -28.448,7.386 -28.448,-20.3 -27.94,-20.3 -27.94,7.386 -28.448,7.386 ; -23.114,-11.156 -23.114,11.196 ; -23.114,-11.156 -23.114,11.196 ; -23.114,-11.156 -22.098,-11.156 -22.098,11.196 -23.114,11.196 ; -23.114,-11.156 -24.13,-11.156 -24.13,11.196 -23.114,11.196 ; -5.715,-1.016 -5.715,1.016 ; -5.715,-1.016 -4.191,-1.016 -3.937,-0.762 1.143,-0.762 1.27,-0.635 1.27,0.635 1.143,0.762 -3.937,0.762 -4.191,1.016 -5.715,1.016

## Ä219_220_Ä219(Primary) [mm]
pads (2):
  round 2 hole 1: A(0,0) K(22.5,0)
Top Overlay:
  lines w0.1: 1.5,0 5.25,0 ; 9.5,0 15,0 ; 13.5,-1.25 13.5,1.25 ; 17.25,0 21,0 ; 5.25,0 5.25,-2 17.25,-2 17.25,2 5.25,2 5.25,0 ; 10.75,-1.25 13.5,0 10.75,1.25 10.75,-1.25
Mechanical 1:
  lines w0.25: 0,0 5.25,0 ; 6.5,-1.275 cw(c6.5,0) 6.5,1.275 ; 6.5,-1.25 7,-1.25 ; 6.5,1.25 7,1.25 ; 17.25,0 22.5,0 ; 7,-1.25 7.75,-2 14.75,-2 15.5,-1.25 ; 7,-1.25 7,1.25 ; 7,1.25 7.75,2 14.75,2 15.5,1.25 ; 15.5,-1.25 15.5,1.25 ; 15.5,-1.25 16,-1.25 ccw(c16,0) 16,1.25 15.5,1.25

## Ä219_220_Ä220(Primary) [mm]
pads (2):
  round 2 hole 1: A(0,0) K(22.5,0)
Top Overlay:
  lines w0.1: 1.5,0 5.25,0 ; 9.5,0 15,0 ; 13.5,-1.25 13.5,1.25 ; 17.25,0 21,0 ; 5.25,0 5.25,-2 17.25,-2 17.25,2 5.25,2 5.25,0 ; 10.75,-1.25 13.5,0 10.75,1.25 10.75,-1.25
Mechanical 1:
  lines w0.25: 0,0 5.25,0 ; 6.5,-1.275 cw(c6.5,0) 6.5,1.275 ; 6.5,-1.25 7,-1.25 ; 6.5,1.25 7,1.25 ; 17.25,0 22.5,0 ; 7,-1.25 7.75,-2 14.75,-2 15.5,-1.25 ; 7,-1.25 7,1.25 ; 7,1.25 7.75,2 14.75,2 15.5,1.25 ; 15.5,-1.25 15.5,1.25 ; 15.5,-1.25 16,-1.25 ccw(c16,0) 16,1.25 15.5,1.25